# EAGLE library part RJHS-4PORTS-2LEDS (library stutz-components-library)
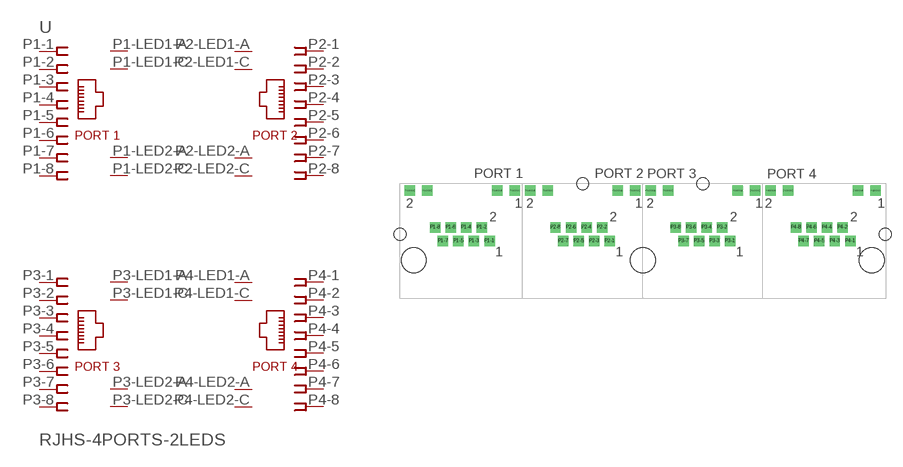
[diagram p8: symbol with the pads of RJHS-4PORTS-2LEDS; footprint RJHS-4PORTS-2LEDS]

Designator prefix -

## RJHS-4PORTS-2LEDS  [RJHS-4PORTS-2LEDS]
P1-1  P1-1  pas
P1-2  P1-2  pas
P1-3  P1-3  pas
P1-4  P1-4  pas
P1-5  P1-5  pas
P1-6  P1-6  pas
P1-7  P1-7  pas
P1-8  P1-8  pas
P1-LED1-A  P1-LED1-A  pas
P1-LED1-C  P1-LED1-C  pas
P1-LED2-A  P1-LED2-A  pas
P1-LED2-C  P1-LED2-C  pas
P2-1  P2-1  pas
P2-2  P2-2  pas
P2-3  P2-3  pas
P2-4  P2-4  pas
P2-5  P2-5  pas
P2-6  P2-6  pas
P2-7  P2-7  pas
P2-8  P2-8  pas
P2-LED1-A  P2-LED1-A  pas
P2-LED1-C  P2-LED1-C  pas
P2-LED2-A  P2-LED2-A  pas
P2-LED2-C  P2-LED2-C  pas
P3-1  P3-1  pas
P3-2  P3-2  pas
P3-3  P3-3  pas
P3-4  P3-4  pas
P3-5  P3-5  pas
P3-6  P3-6  pas
P3-7  P3-7  pas
P3-8  P3-8  pas
P3-LED1-A  P3-LED1-A  pas
P3-LED1-C  P3-LED1-C  pas
P3-LED2-A  P3-LED2-A  pas
P3-LED2-C  P3-LED2-C  pas
P4-1  P4-1  pas
P4-2  P4-2  pas
P4-3  P4-3  pas
P4-4  P4-4  pas
P4-5  P4-5  pas
P4-6  P4-6  pas
P4-7  P4-7  pas
P4-8  P4-8  pas
P4-LED1-A  P4-LED1-A3  pas
P4-LED1-C  P4-LED1-C  pas
P4-LED2-A  P4-LED2-A  pas
P4-LED2-C  P4-LED2-C  pas

## Footprint RJHS-4PORTS-2LEDS (pad centres in mm)
drill 0.864 square: P1-1 -20.066,-0.254; P1-2 -21.082,1.524; P1-3 -22.098,-0.254; P1-4 -23.114,1.524; P1-5 -24.13,-0.254; P1-6 -25.146,1.524; P1-7 -26.162,-0.254; P1-8 -27.178,1.524; P1-LED1-A -19.05,6.35; P1-LED1-C -16.764,6.35; P1-LED2-A -30.48,6.35; P1-LED2-C -28.194,6.35; P2-1 -4.318,-0.254; P2-2 -5.334,1.524; P2-3 -6.35,-0.254; P2-4 -7.366,1.524; P2-5 -8.382,-0.254; P2-6 -9.398,1.524; P2-7 -10.414,-0.254; P2-8 -11.43,1.524; P2-LED1-A -3.302,6.35; P2-LED1-C -1.016,6.35; P2-LED2-A -14.732,6.35; P2-LED2-C -12.446,6.35; P3-1 11.43,-0.254; P3-2 10.414,1.524; P3-3 9.398,-0.254; P3-4 8.382,1.524; P3-5 7.366,-0.254; P3-6 6.35,1.524; P3-7 5.334,-0.254; P3-8 4.318,1.524; P3-LED1-A 12.446,6.35; P3-LED1-C 14.732,6.35; P3-LED2-A 1.016,6.35; P3-LED2-C 3.302,6.35; P4-1 27.178,-0.254; P4-2 26.162,1.524; P4-3 25.146,-0.254; P4-4 24.13,1.524; P4-5 23.114,-0.254; P4-6 22.098,1.524; P4-7 21.082,-0.254; P4-8 20.066,1.524; P4-LED1-A 28.194,6.35; P4-LED1-C 30.48,6.35; P4-LED2-A 16.764,6.35; P4-LED2-C 19.05,6.35
hole 3.251 at 29.972,-2.794
hole 3.251 at 0,-2.794
hole 3.251 at -29.972,-2.794
hole 1.524 at 31.75,0.635
hole 1.575 at -31.75,0.635
hole 1.524 at 7.874,7.239
hole 1.524 at -7.874,7.239